# Altium footprint library BGA (1.5mm Pitch, Square3).PcbLib: 8 footprints (part 2 of 2)
Each footprint in its own frame and in the unit in brackets; x right, y up, seen from the top. Pads: shape width x height; smd on the part's side, far side on the other; paste and mask are expansions set on the pad; w line width, h text height; cw(c..) or ccw(c..) is an arc to the next point about the centre after c.
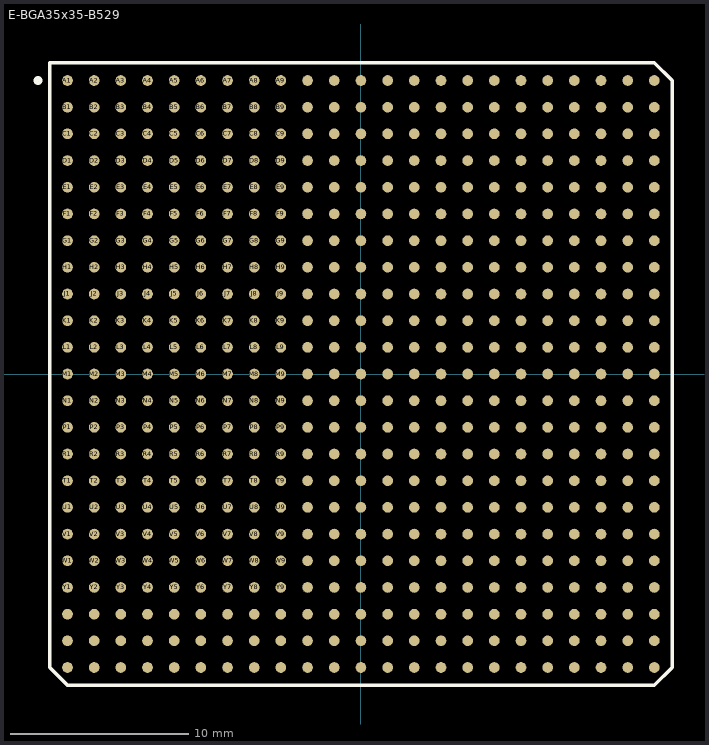
[diagram p1: the footprint, top view; thin cyan lines are the x and y axes]

## E-BGA35x35-B529 [mm] "BGA; 529 Balls; Body 35 x 35 mm; Pitch 1.5 mm"
height 3.5
pads (529):
  round 0.6 smd: A1(-16.5,16.5) A2(-15,16.5) A3(-13.5,16.5) A4(-12,16.5) A5(-10.5,16.5) A6(-9,16.5) A7(-7.5,16.5) A8(-6,16.5) A9(-4.5,16.5) A10(-3,16.5) A11(-1.5,16.5) A12(0,16.5) A13(1.5,16.5) A14(3,16.5) A15(4.5,16.5) A16(6,16.5) A17(7.5,16.5) A18(9,16.5) A19(10.5,16.5) A20(12,16.5) A21(13.5,16.5) A22(15,16.5) A23(16.5,16.5) AA1(-16.5,-13.5) AA2(-15,-13.5) AA3(-13.5,-13.5) AA4(-12,-13.5) AA5(-10.5,-13.5) AA6(-9,-13.5) AA7(-7.5,-13.5) AA8(-6,-13.5) AA9(-4.5,-13.5) AA10(-3,-13.5) AA11(-1.5,-13.5) AA12(0,-13.5) AA13(1.5,-13.5) AA14(3,-13.5) AA15(4.5,-13.5) AA16(6,-13.5) AA17(7.5,-13.5) AA18(9,-13.5) AA19(10.5,-13.5) AA20(12,-13.5) AA21(13.5,-13.5) AA22(15,-13.5) AA23(16.5,-13.5) AB1(-16.5,-15) AB2(-15,-15) AB3(-13.5,-15) AB4(-12,-15) AB5(-10.5,-15) AB6(-9,-15) AB7(-7.5,-15) AB8(-6,-15) AB9(-4.5,-15) AB10(-3,-15) AB11(-1.5,-15) AB12(0,-15) AB13(1.5,-15) AB14(3,-15) AB15(4.5,-15) AB16(6,-15) AB17(7.5,-15) AB18(9,-15) AB19(10.5,-15) AB20(12,-15) AB21(13.5,-15) AB22(15,-15) AB23(16.5,-15) AC1(-16.5,-16.5) AC2(-15,-16.5) AC3(-13.5,-16.5) AC4(-12,-16.5) AC5(-10.5,-16.5) AC6(-9,-16.5) AC7(-7.5,-16.5) AC8(-6,-16.5) AC9(-4.5,-16.5) AC10(-3,-16.5) AC11(-1.5,-16.5) AC12(0,-16.5) AC13(1.5,-16.5) AC14(3,-16.5) AC15(4.5,-16.5) AC16(6,-16.5) AC17(7.5,-16.5) AC18(9,-16.5) AC19(10.5,-16.5) AC20(12,-16.5) AC21(13.5,-16.5) AC22(15,-16.5) AC23(16.5,-16.5) B1(-16.5,15) B2(-15,15) B3(-13.5,15) B4(-12,15) B5(-10.5,15) B6(-9,15) B7(-7.5,15) B8(-6,15) B9(-4.5,15) B10(-3,15) B11(-1.5,15) B12(0,15) B13(1.5,15) B14(3,15) B15(4.5,15) B16(6,15) B17(7.5,15) B18(9,15) B19(10.5,15) B20(12,15) B21(13.5,15) B22(15,15) B23(16.5,15) C1(-16.5,13.5) C2(-15,13.5) C3(-13.5,13.5) C4(-12,13.5) C5(-10.5,13.5) C6(-9,13.5) C7(-7.5,13.5) C8(-6,13.5) C9(-4.5,13.5) C10(-3,13.5) C11(-1.5,13.5) C12(0,13.5) C13(1.5,13.5) C14(3,13.5) C15(4.5,13.5) C16(6,13.5) C17(7.5,13.5) C18(9,13.5) C19(10.5,13.5) C20(12,13.5) C21(13.5,13.5) C22(15,13.5) C23(16.5,13.5) D1(-16.5,12) D2(-15,12) D3(-13.5,12) D4(-12,12) D5(-10.5,12) D6(-9,12) D7(-7.5,12) D8(-6,12) D9(-4.5,12) D10(-3,12) D11(-1.5,12) D12(0,12) D13(1.5,12) D14(3,12) D15(4.5,12) D16(6,12) D17(7.5,12) D18(9,12) D19(10.5,12) D20(12,12) D21(13.5,12) D22(15,12) D23(16.5,12) E1(-16.5,10.5) E2(-15,10.5) E3(-13.5,10.5) E4(-12,10.5) E5(-10.5,10.5) E6(-9,10.5) E7(-7.5,10.5) E8(-6,10.5) E9(-4.5,10.5) E10(-3,10.5) E11(-1.5,10.5) E12(0,10.5) E13(1.5,10.5) E14(3,10.5) E15(4.5,10.5) E16(6,10.5) E17(7.5,10.5) E18(9,10.5) E19(10.5,10.5) E20(12,10.5) E21(13.5,10.5) E22(15,10.5) E23(16.5,10.5) F1(-16.5,9) F2(-15,9) F3(-13.5,9) F4(-12,9) F5(-10.5,9) F6(-9,9) F7(-7.5,9) F8(-6,9) F9(-4.5,9) F10(-3,9) F11(-1.5,9) F12(0,9) F13(1.5,9) F14(3,9) F15(4.5,9) F16(6,9) F17(7.5,9) F18(9,9) F19(10.5,9) F20(12,9) F21(13.5,9) F22(15,9) F23(16.5,9) G1(-16.5,7.5) G2(-15,7.5) G3(-13.5,7.5) G4(-12,7.5) G5(-10.5,7.5) G6(-9,7.5) G7(-7.5,7.5) G8(-6,7.5) G9(-4.5,7.5) G10(-3,7.5) G11(-1.5,7.5) G12(0,7.5) G13(1.5,7.5) G14(3,7.5) G15(4.5,7.5) G16(6,7.5) G17(7.5,7.5) G18(9,7.5) G19(10.5,7.5) G20(12,7.5) G21(13.5,7.5) G22(15,7.5) G23(16.5,7.5) H1(-16.5,6) H2(-15,6) H3(-13.5,6) H4(-12,6) H5(-10.5,6) H6(-9,6) H7(-7.5,6) H8(-6,6) H9(-4.5,6) H10(-3,6) H11(-1.5,6) H12(0,6) H13(1.5,6) H14(3,6) H15(4.5,6) H16(6,6) H17(7.5,6) H18(9,6) H19(10.5,6) H20(12,6) H21(13.5,6) H22(15,6) H23(16.5,6) J1(-16.5,4.5) J2(-15,4.5) J3(-13.5,4.5) J4(-12,4.5) J5(-10.5,4.5) J6(-9,4.5) J7(-7.5,4.5) J8(-6,4.5) J9(-4.5,4.5) J10(-3,4.5) J11(-1.5,4.5) J12(0,4.5) J13(1.5,4.5) J14(3,4.5) J15(4.5,4.5) J16(6,4.5) J17(7.5,4.5) J18(9,4.5) J19(10.5,4.5) J20(12,4.5) J21(13.5,4.5) J22(15,4.5) J23(16.5,4.5) K1(-16.5,3) K2(-15,3) K3(-13.5,3) K4(-12,3) K5(-10.5,3) K6(-9,3) K7(-7.5,3) K8(-6,3) K9(-4.5,3) K10(-3,3) K11(-1.5,3) K12(0,3) K13(1.5,3) K14(3,3) K15(4.5,3) K16(6,3) K17(7.5,3) K18(9,3) K19(10.5,3) K20(12,3) K21(13.5,3) K22(15,3) K23(16.5,3) L1(-16.5,1.5) L2(-15,1.5) L3(-13.5,1.5) L4(-12,1.5) L5(-10.5,1.5) L6(-9,1.5) L7(-7.5,1.5) L8(-6,1.5) L9(-4.5,1.5) L10(-3,1.5) L11(-1.5,1.5) L12(0,1.5) L13(1.5,1.5) L14(3,1.5) L15(4.5,1.5) L16(6,1.5) L17(7.5,1.5) L18(9,1.5) L19(10.5,1.5) L20(12,1.5) L21(13.5,1.5) L22(15,1.5) L23(16.5,1.5) M1(-16.5,0) M2(-15,0) M3(-13.5,0) M4(-12,0) M5(-10.5,0) M6(-9,0) M7(-7.5,0) M8(-6,0) M9(-4.5,0) M10(-3,0) M11(-1.5,0) M12(0,0) M13(1.5,0) M14(3,0) M15(4.5,0) M16(6,0) M17(7.5,0) M18(9,0) M19(10.5,0) M20(12,0) M21(13.5,0) M22(15,0) M23(16.5,0) N1(-16.5,-1.5) N2(-15,-1.5) N3(-13.5,-1.5) N4(-12,-1.5) N5(-10.5,-1.5) N6(-9,-1.5) N7(-7.5,-1.5) N8(-6,-1.5) N9(-4.5,-1.5) N10(-3,-1.5) N11(-1.5,-1.5) N12(0,-1.5) N13(1.5,-1.5) N14(3,-1.5) N15(4.5,-1.5) N16(6,-1.5) N17(7.5,-1.5) N18(9,-1.5) N19(10.5,-1.5) N20(12,-1.5) N21(13.5,-1.5) N22(15,-1.5) N23(16.5,-1.5) P1(-16.5,-3) P2(-15,-3) P3(-13.5,-3) P4(-12,-3) P5(-10.5,-3) P6(-9,-3) P7(-7.5,-3) P8(-6,-3) P9(-4.5,-3) P10(-3,-3) P11(-1.5,-3) P12(0,-3) P13(1.5,-3) P14(3,-3) P15(4.5,-3) P16(6,-3) P17(7.5,-3) P18(9,-3) P19(10.5,-3) P20(12,-3) P21(13.5,-3) P22(15,-3) P23(16.5,-3) R1(-16.5,-4.5) R2(-15,-4.5) R3(-13.5,-4.5) R4(-12,-4.5) R5(-10.5,-4.5) R6(-9,-4.5) R7(-7.5,-4.5) R8(-6,-4.5) R9(-4.5,-4.5) R10(-3,-4.5) R11(-1.5,-4.5) R12(0,-4.5) R13(1.5,-4.5) R14(3,-4.5) R15(4.5,-4.5) R16(6,-4.5) R17(7.5,-4.5) R18(9,-4.5) R19(10.5,-4.5) R20(12,-4.5) R21(13.5,-4.5) R22(15,-4.5) R23(16.5,-4.5) T1(-16.5,-6) T2(-15,-6) T3(-13.5,-6) T4(-12,-6) T5(-10.5,-6) T6(-9,-6) T7(-7.5,-6) T8(-6,-6) T9(-4.5,-6) T10(-3,-6) T11(-1.5,-6) T12(0,-6) T13(1.5,-6) T14(3,-6) T15(4.5,-6) T16(6,-6) T17(7.5,-6) T18(9,-6) T19(10.5,-6) T20(12,-6) T21(13.5,-6) T22(15,-6) T23(16.5,-6) U1(-16.5,-7.5) U2(-15,-7.5) U3(-13.5,-7.5) U4(-12,-7.5) U5(-10.5,-7.5) U6(-9,-7.5) U7(-7.5,-7.5) U8(-6,-7.5) U9(-4.5,-7.5) U10(-3,-7.5) U11(-1.5,-7.5) U12(0,-7.5) U13(1.5,-7.5) U14(3,-7.5) U15(4.5,-7.5) U16(6,-7.5) U17(7.5,-7.5) U18(9,-7.5) U19(10.5,-7.5) U20(12,-7.5) U21(13.5,-7.5) U22(15,-7.5) U23(16.5,-7.5) V1(-16.5,-9) V2(-15,-9) V3(-13.5,-9) V4(-12,-9) V5(-10.5,-9) V6(-9,-9) V7(-7.5,-9) V8(-6,-9) V9(-4.5,-9) V10(-3,-9) V11(-1.5,-9) V12(0,-9) V13(1.5,-9) V14(3,-9) V15(4.5,-9) V16(6,-9) V17(7.5,-9) V18(9,-9) V19(10.5,-9) V20(12,-9) V21(13.5,-9) V22(15,-9) V23(16.5,-9) W1(-16.5,-10.5) W2(-15,-10.5) W3(-13.5,-10.5) W4(-12,-10.5) W5(-10.5,-10.5) W6(-9,-10.5) W7(-7.5,-10.5) W8(-6,-10.5) W9(-4.5,-10.5) W10(-3,-10.5) W11(-1.5,-10.5) W12(0,-10.5) W13(1.5,-10.5) W14(3,-10.5) W15(4.5,-10.5) W16(6,-10.5) W17(7.5,-10.5) W18(9,-10.5) W19(10.5,-10.5) W20(12,-10.5) W21(13.5,-10.5) W22(15,-10.5) W23(16.5,-10.5) Y1(-16.5,-12) Y2(-15,-12) Y3(-13.5,-12) Y4(-12,-12) Y5(-10.5,-12) Y6(-9,-12) Y7(-7.5,-12) Y8(-6,-12) Y9(-4.5,-12) Y10(-3,-12) Y11(-1.5,-12) Y12(0,-12) Y13(1.5,-12) Y14(3,-12) Y15(4.5,-12) Y16(6,-12) Y17(7.5,-12) Y18(9,-12) Y19(10.5,-12) Y20(12,-12) Y21(13.5,-12) Y22(15,-12) Y23(16.5,-12)
Top Overlay:
  circle w0.25: c-18.155,16.5 r0.125
  lines w0.2: -17.5,-16.5 -17.5,17.5 16.5,17.5 17.5,16.5 17.5,-16.5 16.5,-17.5 -16.5,-17.5 -17.5,-16.5